# EAGLE library part CP2102_MODULE (library HWProgUSB_DIP)
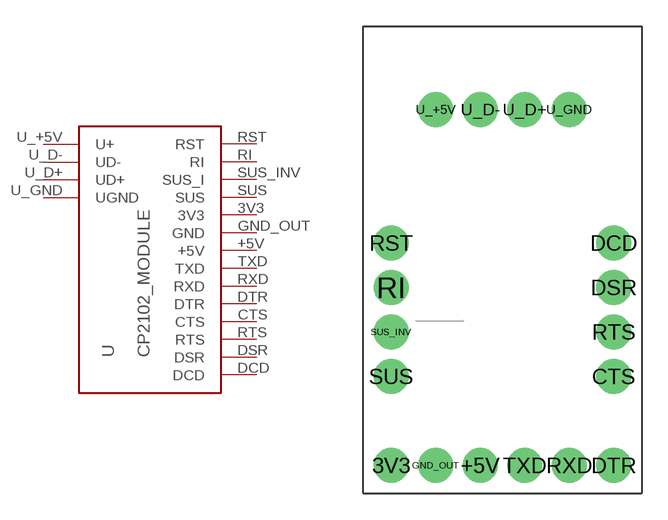
[diagram p0: symbol with the pads of CP2102_MODULE; footprint CP2102_MODULE]

Designator prefix -

## CP2102_MODULE  [CP2102_MODULE]
3V3  3V3  pas
+5V  +5V  pas
CTS  CTS  pas
DCD  DCD  pas
DSR  DSR  pas
DTR  DTR  pas
GND_OUT  GND  pas
RI  RI  pas
RST  RST  pas
RTS  RTS  pas
RXD  RXD  pas
SUS  SUS  pas
SUS_INV  SUS_I  pas
TXD  TXD  pas
U_+5V  U+  pas
U_D+  UD+  pas
U_D-  UD-  pas
U_GND  UGND  pas

## Footprint CP2102_MODULE (pad centres in mm)
drill 1 pad 2: 3V3 -6.35,-8.89; +5V -1.27,-8.89; CTS 6.35,-3.81; DCD 6.35,3.81; DSR 6.35,1.27; DTR 6.35,-8.89; GND_OUT -3.81,-8.89; RI -6.35,1.27; RST -6.35,3.81; RTS 6.35,-1.27; RXD 3.81,-8.89; SUS -6.35,-3.81; SUS_INV -6.35,-1.27; TXD 1.27,-8.89; U_+5V -3.81,11.43; U_D+ 1.27,11.43; U_D- -1.27,11.43; U_GND 3.81,11.43